# Altium schematic symbol library Schlib1.SchLib: 34 symbols
Pins are listed as number, name and electrical type; pins without a type are passive.

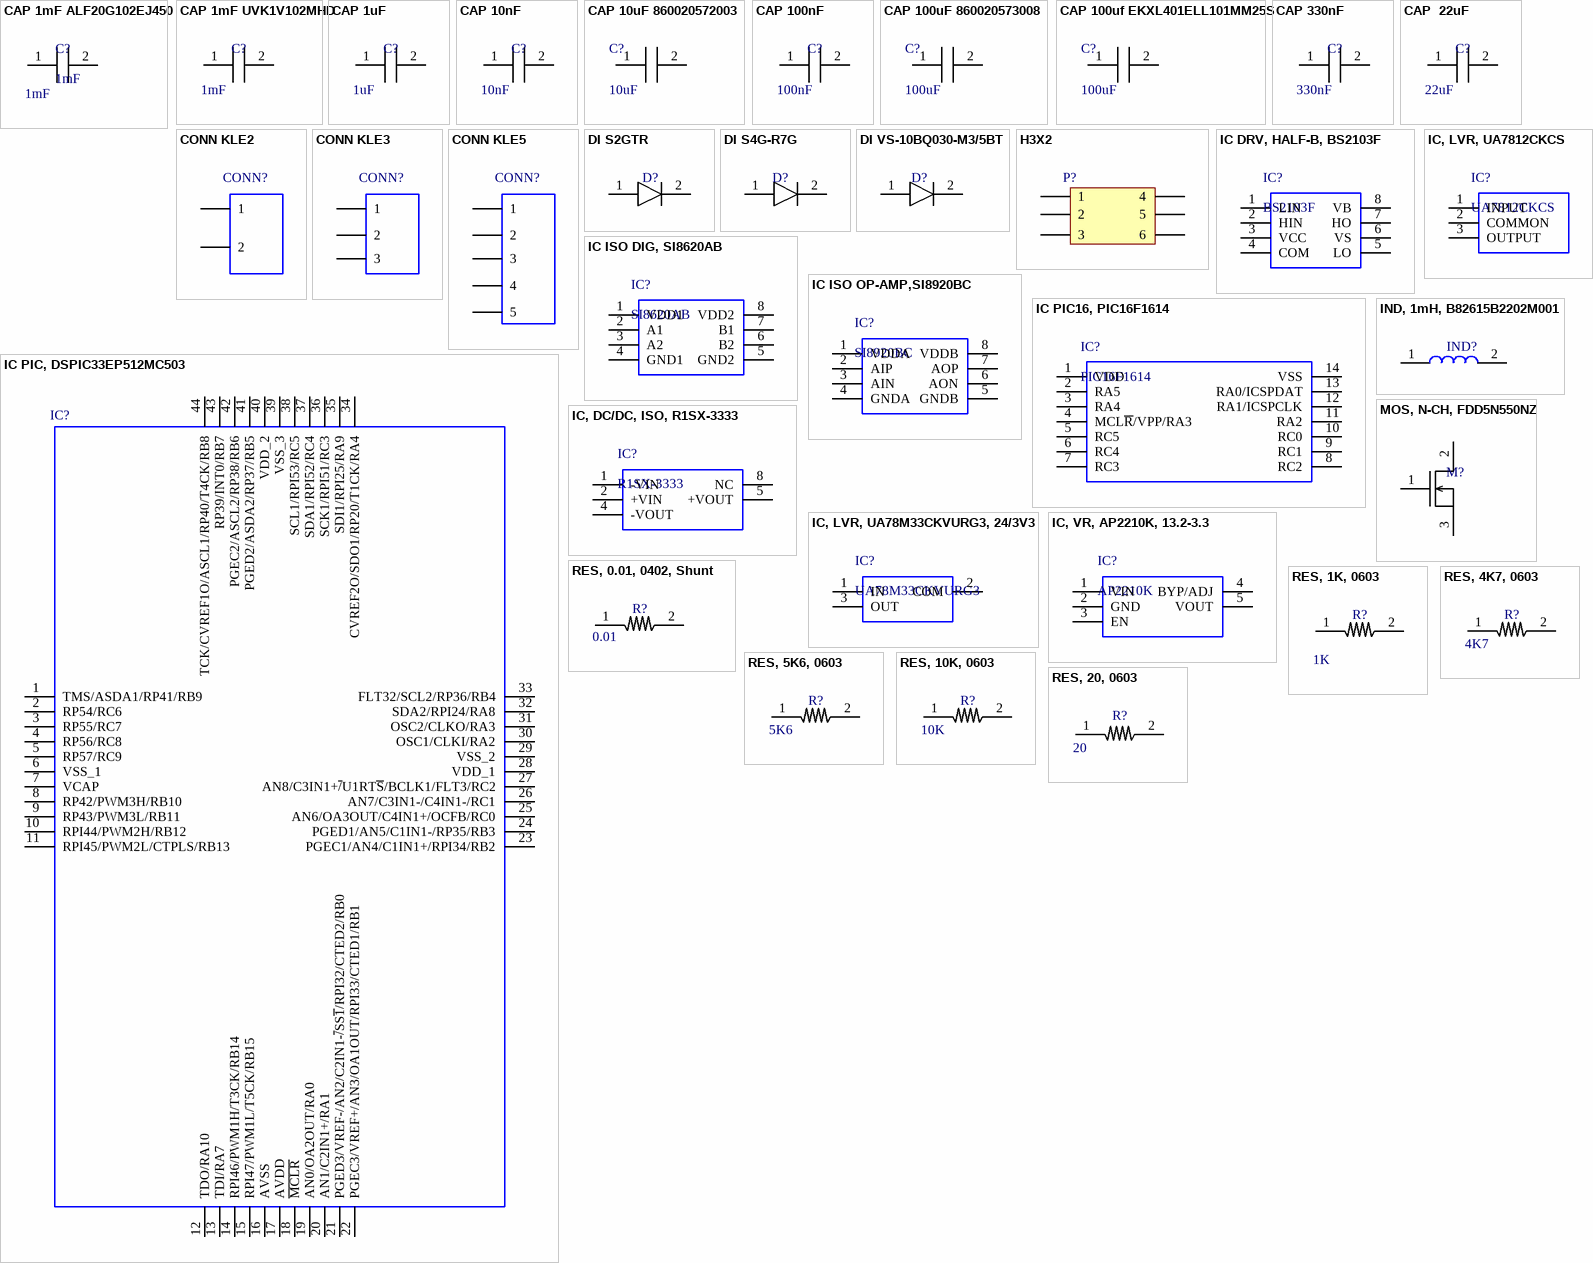
[diagram p0: symbols CAP 1mF ALF20G102EJ450 to RES, 20, 0603]

## CAP 1mF ALF20G102EJ450
designator C?, comment 1mF
CAP, ELC, 1mF, ALF20G102EJ450, 450V; Parameter 1: 1mF
pins: 1, 2

## CAP 1mF UVK1V102MHD
designator C?  Parameter 1: 1mF  (hidden comment: *)
CAP, ELC, 1mF, UVK1V102MHD, 35V
pins: 1, 2

## CAP 1uF
designator C?  Parameter 1: 1uF  (hidden comment: *)
footprint 0603_CAP
pins: 1, 2

## CAP 10nF
designator C?  Parameter 1: 10nF  (hidden comment: *)
footprint 0603_CAP
pins: 1, 2

## CAP 10uF 860020572003
designator C?  Parameter 1: 10uF  (hidden comment: *)
footprint 860020572003
pins: 1, 2

## CAP 100nF
designator C?  Parameter 1: 100nF  (hidden comment: *)
footprint 0603_CAP
pins: 1, 2

## CAP 100uF 860020573008
designator C?  Parameter 1: 100uF  (hidden comment: *)
footprint 860020573008
pins: 1, 2

## CAP 100uf EKXL401ELL101MM25S
designator C?  Parameter 1: 100uF
footprint EKXL401ELL101MM25S
pins: 1, 2

## CAP 330nF
designator C?  Parameter 1: 330nF  (hidden comment: *)
footprint 0603_CAP
pins: 1, 2

## CAP  22uF
designator C?  Parameter 1: 22uF  (hidden comment: *)
footprint 0603_CAP
pins: 1, 2

## CONN KLE2
designator CONN?  (value not drawn)
footprint kle2
pins: 1, 2

## CONN KLE3
designator CONN?  (value not drawn)
footprint kle3
pins: 1, 2, 3

## CONN KLE5
designator CONN?  (value not drawn)
pins: 1, 2, 3, 4, 5

## DI S2GTR
designator D?
DI, S2GTR, 400V, 2A
footprint S2GTR
pins: 1 Anode, 2 Cathode

## DI S4G-R7G
designator D?  (value not drawn)
DI, S4G-R7G, 400V, 4A
footprint S4GR7G
pins: 1 Anode, 2 Cathode

## DI VS-10BQ030-M3/5BT
designator D?  (value not drawn)
30V, 2A, SCHOTTKY
footprint VS-10BQ030-M3/5BT
pins: 1 Anode, 2 Cathode

## H3X2
designator P?  (value not drawn)
footprint H3X2
pins: 1, 2, 3, 4, 5, 6

## IC DRV, HALF-B, BS2103F
designator IC?, comment BS2103F
footprint BS2103F
pins: 1 LIN, 2 HIN, 3 VCC, 4 COM, 5 LO, 6 VS, 7 HO, 8 VB

## IC ISO DIG, SI8620AB
designator IC?, comment SI8620AB
footprint SI8620AB
pins: 1 VDD1 (power), 2 A1, 3 A2, 4 GND1, 5 GND2, 6 B2, 7 B1, 8 VDD2 (power)

## IC ISO OP-AMP,SI8920BC
designator IC?, comment SI8920BC
footprint SI8920BC-IP
pins: 1 VDDA (power), 2 AIP, 3 AIN, 4 GNDA, 5 GNDB, 6 AON, 7 AOP, 8 VDDB (power)

## IC PIC16, PIC16F1614
designator IC?, comment PIC16F1614
footprint PIC16F1613
pins: 1 VDD, 2 RA5, 3 RA4, 4 MCL~{R}/VPP/RA3, 5 RC5, 6 RC4, 7 RC3, 8 RC2, 9 RC1, 10 RC0, 11 RA2, 12 RA1/ICSPCLK, 13 RA0/ICSPDAT, 14 VSS

## IC PIC, DSPIC33EP512MC503
designator IC?  (value not drawn)
footprint DSPIC33EP512MC504
pins: 1 TMS/ASDA1/RP41/RB9, 2 RP54/RC6, 3 RP55/RC7, 4 RP56/RC8, 5 RP57/RC9, 6 VSS_1, 7 VCAP, 8 RP42/PWM3H/RB10, 9 RP43/PWM3L/RB11, 10 RPI44/PWM2H/RB12, 11 RPI45/PWM2L/CTPLS/RB13, 12 TDO/RA10, 13 TDI/RA7, 14 RPI46/PWM1H/T3CK/RB14, 15 RPI47/PWM1L/T5CK/RB15, 16 AVSS, 17 AVDD, 18 ~{MCLR}, 19 AN0/OA2OUT/RA0, 20 AN1/C2IN1+/RA1, 21 PGED3/VREF-/AN2/C2IN1-~{/}SS~{1}/RPI32/CTED2/RB0, 22 PGEC3/VREF+/AN3/OA1OUT/RPI33/CTED1/RB1, 23 PGEC1/AN4/C1IN1+/RPI34/RB2, 24 PGED1/AN5/C1IN1-/RP35/RB3, 25 AN6/OA3OUT/C4IN1+/OCFB/RC0, 26 AN7/C3IN1-/C4IN1-/RC1, 27 AN8/C3IN1+~{/}U1RT~{S}/BCLK1/FLT3/RC2, 28 VDD_1, 29 VSS_2, 30 OSC1/CLKI/RA2, 31 OSC2/CLKO/RA3, 32 SDA2/RPI24/RA8, 33 FLT32/SCL2/RP36/RB4, 34 CVREF2O/SDO1/RP20/T1CK/RA4, 35 SDI1/RPI25/RA9, 36 SCK1/RPI51/RC3, 37 SDA1/RPI52/RC4, 38 SCL1/RPI53/RC5, 39 VSS_3, 40 VDD_2, 41 PGED2/ASDA2/RP37/RB5, 42 PGEC2/ASCL2/RP38/RB6, 43 RP39/INT0/RB7, 44 TCK/CVREF1O/ASCL1/RP40/T4CK/RB8

## IC, DC/DC, ISO, R1SX-3333
designator IC?, comment R1SX-3333
footprint R1SX_3333
pins: 1 -VIN, 2 +VIN, 4 -VOUT, 5 +VOUT, 8 NC

## IC, LVR, UA78M33CKVURG3, 24/3V3
designator IC?, comment UA78M33CKVURG3
footprint UA78M33CKVURG3
pins: 1 IN, 2 COM, 3 OUT

## IC, LVR, UA7812CKCS
designator IC?, comment UA7812CKCS
footprint UA7812CKCS
pins: 1 INPUT, 2 COMMON, 3 OUTPUT

## IC, VR, AP2210K, 13.2-3.3
designator IC?, comment AP2210K
footprint AP2210K
pins: 1 VIN, 2 GND, 3 EN, 4 BYP/ADJ, 5 VOUT

## IND, 1mH, B82615B2202M001
designator IND?  (value not drawn)
IND, 5mH, B82615B2202M001, 250V, 2A
footprint AIRD
pins: 1, 2

## MOS, N-CH, FDD5N550NZ
designator M?, comment M?  (value not drawn)
MOS, N-CH, FDD5N550NZ, 2A
footprint FDD5N50NZ
pins: 1 "G", 2 "D", 3 "S"

## RES, 0.01, 0402, Shunt
designator R?  Parameter 1: 0.01  (hidden comment: *)
RES, 0.01, 0402, Shunt, CSS0402FT10L0
footprint RES_0402
pins: 1, 2

## RES, 1K, 0603
designator R?  Parameter 1: 1K  (hidden comment: *)
footprint 0603_RES
pins: 1, 2

## RES, 4K7, 0603
designator R?  Parameter 1: 4K7  (hidden comment: *)
footprint 0603_RES
pins: 1, 2

## RES, 5K6, 0603
designator R?  Parameter 1: 5K6  (hidden comment: *)
footprint 0603_RES
pins: 1, 2

## RES, 10K, 0603
designator R?  Parameter 1: 10K  (hidden comment: *)
footprint 0603_RES
pins: 1, 2

## RES, 20, 0603
designator R?  Parameter 1: 20  (hidden comment: *)
footprint 0603_RES
pins: 1, 2